# Altium footprint library SOP9P65_300X490X110L55X31T188X175N.PcbLib: 1 footprints
Each footprint in its own frame and in the unit in brackets; x right, y up, seen from the top. Pads: shape width x height; smd on the part's side, far side on the other; paste and mask are expansions set on the pad; w line width, h text height; cw(c..) or ccw(c..) is an arc to the next point about the centre after c.
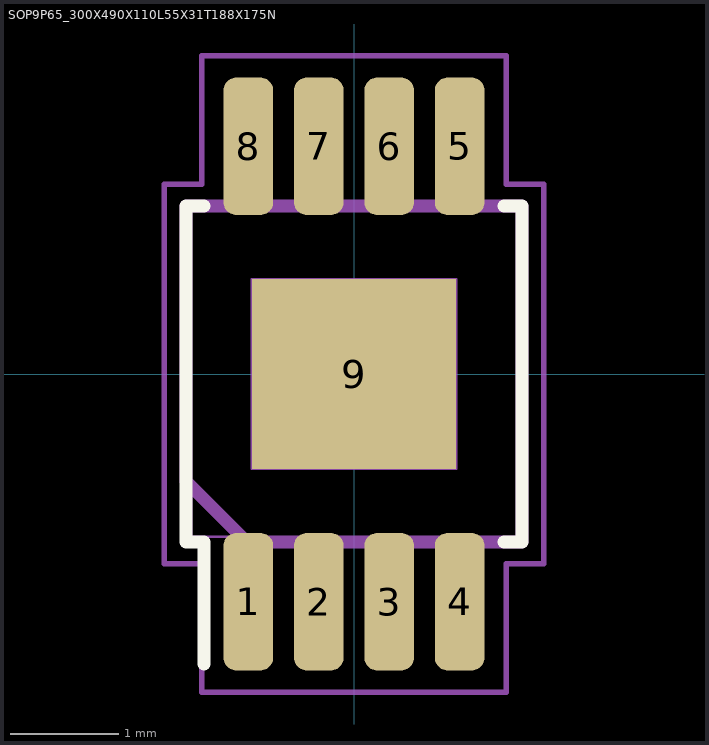
[diagram p0: the footprint, top view; thin cyan lines are the x and y axes]

## SOP9P65_300X490X110L55X31T188X175N [mm] "Small Outline Pkg (SOP with Tab), 0.65 mm pitch; 8 pin, 3.00 mm L X 3.00 mm W X 1.10 mm H body"
height 1.1
pads (9):
  rrect52% 0.46x1.27 smd: 1(-0.975,-2.1) 2(-0.325,-2.1) 3(0.325,-2.1) 4(0.975,-2.1) 5(0.975,2.1) 6(0.325,2.1) 7(-0.325,2.1) 8(-0.975,2.1)
  rect 1.88x1.75 smd paste-1.88: 9(0,0)
Top Overlay:
  lines w0.12: -1.385,-2.675 -1.385,-1.55 -1.55,-1.55 -1.55,1.55 -1.385,1.55 ; 1.385,-1.55 1.55,-1.55 1.55,1.55 1.385,1.55
Top Paste:
  region: 0.81,-0.75 0.13,-0.75 0.13,-0.13 0.81,-0.13
  region: 0.81,0.13 0.13,0.13 0.13,0.75 0.81,0.75
  region: -0.13,-0.75 -0.81,-0.75 -0.81,-0.13 -0.13,-0.13
  region: -0.13,0.13 -0.81,0.13 -0.81,0.75 -0.13,0.75
Mechanical 3:
  lines w0.12: -1.55,-0.99 -0.99,-1.55 1.55,-1.55 1.55,1.55 -1.55,1.55 -1.55,-0.99
Mechanical 5:
  lines w0.025: -1.5,-1.5 -1.5,1.5 1.5,1.5 1.5,-1.5 -1.5,-1.5 ; -1.132,-2.45 -0.817,-2.45 -0.817,-1.9 -1.132,-1.9 -1.132,-2.45 ; -1.132,1.9 -0.817,1.9 -0.817,2.45 -1.132,2.45 -1.132,1.9 ; -0.94,-0.875 0.94,-0.875 0.94,0.875 -0.94,0.875 -0.94,-0.875 ; -0.483,-2.45 -0.168,-2.45 -0.168,-1.9 -0.483,-1.9 -0.483,-2.45 ; -0.483,1.9 -0.168,1.9 -0.168,2.45 -0.483,2.45 -0.483,1.9 ; 0.168,-2.45 0.483,-2.45 0.483,-1.9 0.168,-1.9 0.168,-2.45 ; 0.168,1.9 0.483,1.9 0.483,2.45 0.168,2.45 0.168,1.9 ; 0.817,-2.45 1.132,-2.45 1.132,-1.9 0.817,-1.9 0.817,-2.45 ; 0.817,1.9 1.132,1.9 1.132,2.45 0.817,2.45 0.817,1.9
Mechanical 7:
  circle w0.05: c0,0 r0.25
  lines w0.05: -0.35,0 0.35,0 ; 0,-0.35 0,0.35 ; -1.75,-1.75 -1.75,1.75 -1.405,1.75 -1.405,2.935 1.405,2.935 1.405,1.75 1.75,1.75 1.75,-1.75 1.405,-1.75 1.405,-2.935 -1.405,-2.935 -1.405,-1.75 -1.75,-1.75
Mechanical 9:
  text "'.Designator'" at -4.244,-0.889 h1
3D body "SOP9P65_300X490X110L55X31T188X175.STEP": height 1.1, standoff 0, extent -1.5,-2.45 1.5,2.45
3D body: height 1, standoff 0, extent -1.75,-2.935 1.75,2.935